# Altium footprint library IPM_VFD.PcbLib: 33 footprints (part 3 of 3)
Each footprint in its own frame and in the unit in brackets; x right, y up, seen from the top. Pads: shape width x height; smd on the part's side, far side on the other; paste and mask are expansions set on the pad; w line width, h text height; cw(c..) or ccw(c..) is an arc to the next point about the centre after c.
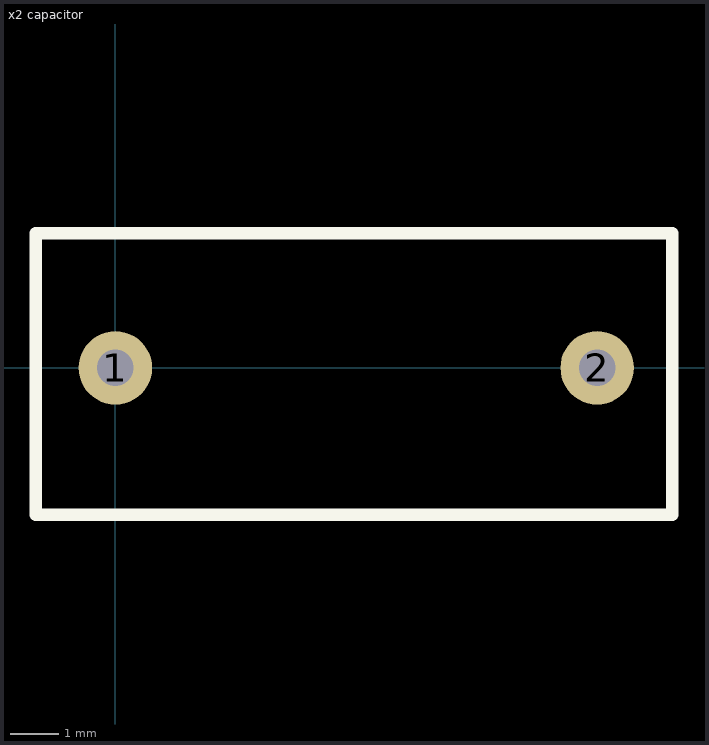
[diagram p2: the footprint, top view; thin cyan lines are the x and y axes]

## x2 capacitor [mil]
pads (2):
  round 60 hole 30: 1(0,0) 2(393.7,0)
Top Overlay:
  lines w10: -65,-120 -65,110 455,110 455,-120 -65,-120
3D body "User Library-WIMA-MKP-X2.STEP": height 440.94, standoff -196.85, extent -60.91,-154.96 450.91,160